# EAGLE library part LSF0108PW (library crasbe)
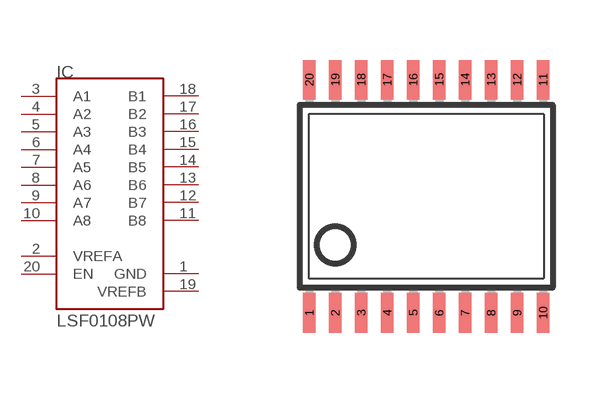
[diagram p41: symbol with the pads of TSSOP-20; footprint TSSOP-20]

Designator prefix IC

## LSF0108PW  [TSSOP-20]
1  GND  pwr
2  VREFA  pwr
3  A1
4  A2
5  A3
6  A4
7  A5
8  A6
9  A7
10  A8
11  B8
12  B7
13  B6
14  B5
15  B4
16  B3
17  B2
18  B1
19  VREFB  pwr
20  EN  in

## Footprint TSSOP-20 (pad centres in mm)
smd 0.305 x 0.991: 1 -2.925,-2.918; 2 -2.275,-2.918; 3 -1.625,-2.918; 4 -0.975,-2.918; 5 -0.325,-2.918; 6 0.325,-2.918; 7 0.975,-2.918; 8 1.625,-2.918; 9 2.275,-2.918; 10 2.925,-2.918; 11 2.925,2.918; 12 2.275,2.918; 13 1.625,2.918; 14 0.975,2.918; 15 0.325,2.918; 16 -0.325,2.918; 17 -0.975,2.918; 18 -1.625,2.918; 19 -2.275,2.918; 20 -2.925,2.918